# Altium schematic symbol library 1-826470-0.SchLib: 1 symbol
Pins are listed as number, name and electrical type; pins without a type are passive.

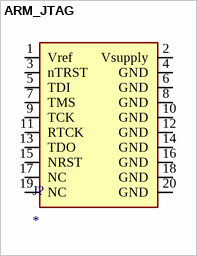
[diagram p0: symbol ARM_JTAG]

## ARM_JTAG
designator J?
MP: 1-826470-0; MF: {'manufacturer': u'TE Connectivity'}; Availability: Unavailable; Package: None; Value: *; Price: None
footprint TE_1-826470-0
pins: 1 Vref, 2 Vsupply, 3 nTRST, 4 GND, 5 TDI, 6 GND, 7 TMS, 8 GND, 9 TCK, 10 GND, 11 RTCK, 12 GND, 13 TDO, 14 GND, 15 NRST, 16 GND, 17 NC, 18 GND, 19 NC, 20 GND